# Altium footprint library Connector_PinHeader_2.54mm.PcbLib: 278 footprints (part 2 of 18)
Each footprint in its own frame and in the unit in brackets; x right, y up, seen from the top. Pads: shape width x height; smd on the part's side, far side on the other; paste and mask are expansions set on the pad; w line width, h text height; cw(c..) or ccw(c..) is an arc to the next point about the centre after c.
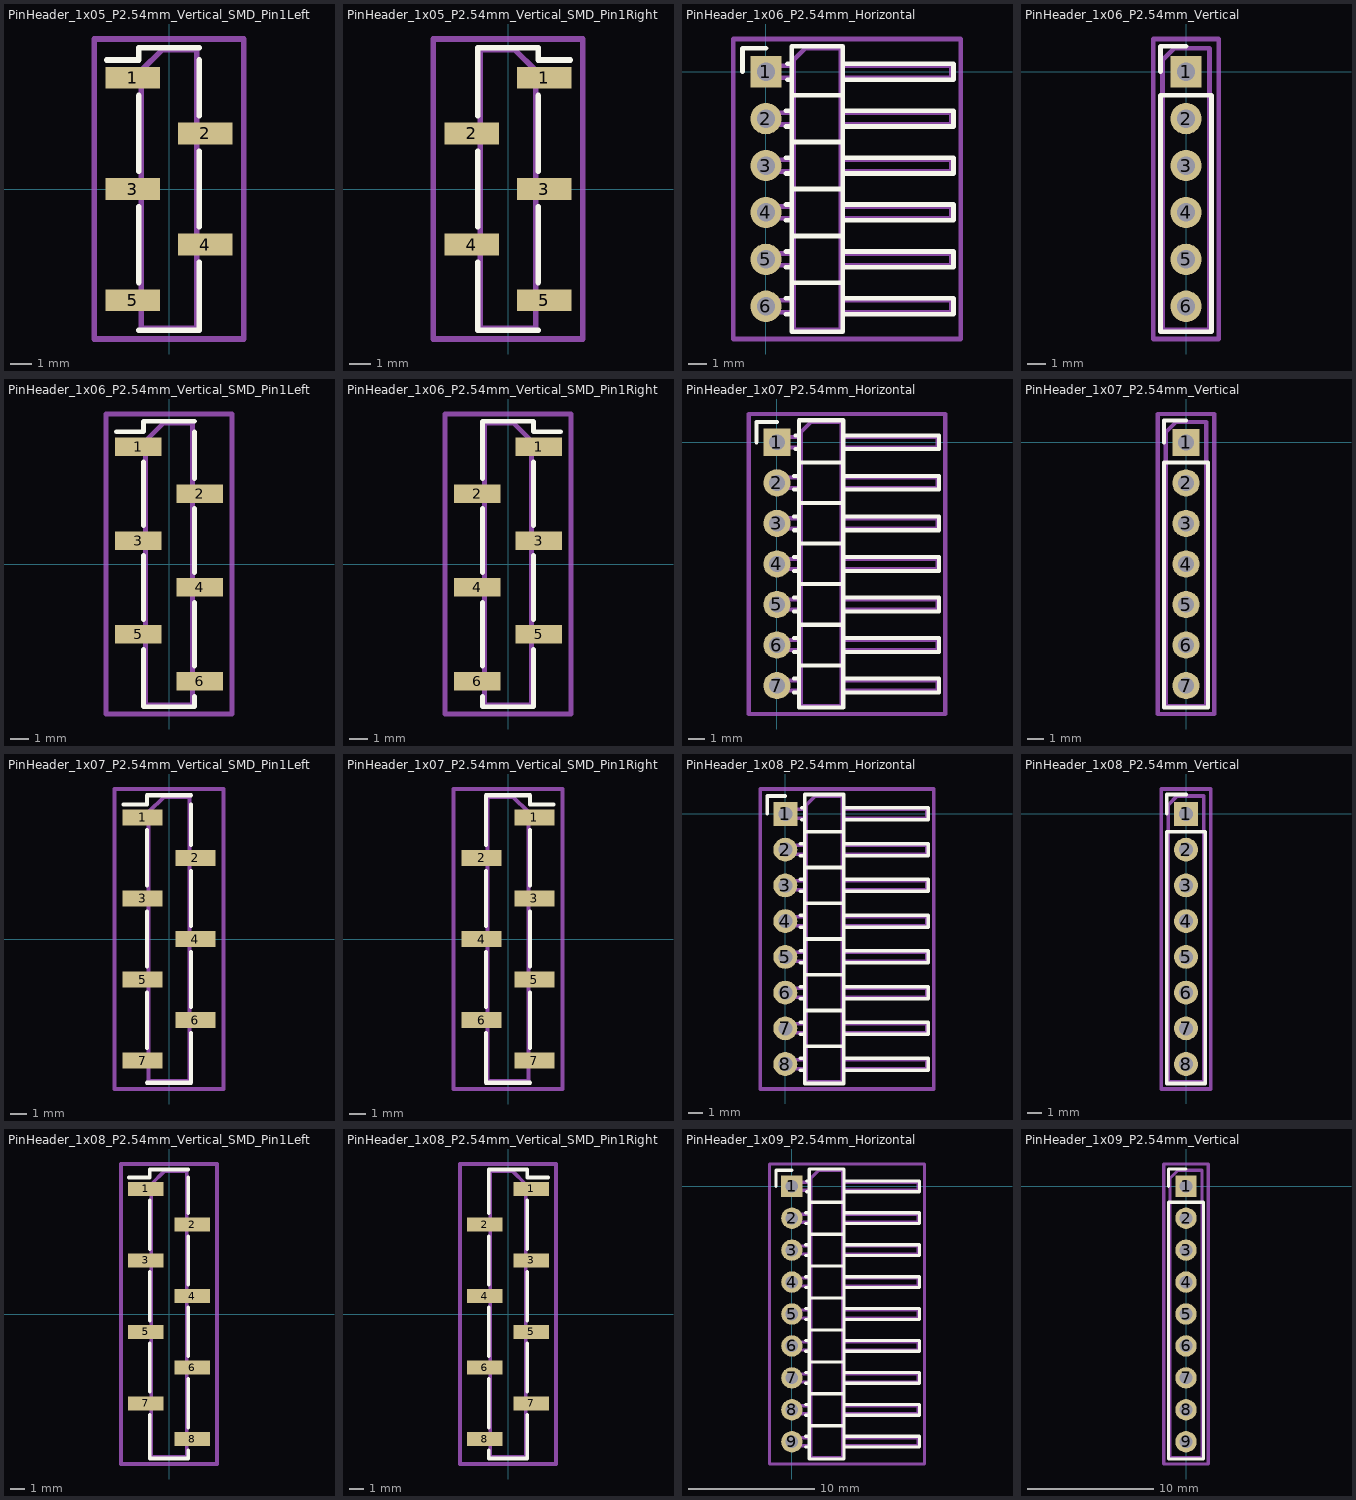
[diagram p1: the footprints below, top view; thin cyan lines are the x and y axes]

## PinHeader_1x05_P2.54mm_Vertical_SMD_Pin1Left [mm]
pads (5):
  rect 2.51x1 smd: 1(-1.655,5.08) 2(1.655,2.54) 3(-1.655,0) 4(1.655,-2.54) 5(-1.655,-5.08)
F.SilkS:
  lines w0.254: -2.85,5.89 -1.38,5.89 -1.38,6.46 1.38,6.46 ; -1.38,-6.46 1.38,-6.46 ; -1.38,-4.27 -1.38,-0.81 ; -1.38,0.81 -1.38,4.27 ; 1.38,-5.89 1.38,-6.46 ; 1.38,-3.35 1.38,-6.46 ; 1.38,-1.73 1.38,1.73 ; 1.38,3.35 1.38,5.89
Top Assembly:
  lines w0.254: -1.27,-5.4 -2.54,-5.4 -2.54,-4.76 -1.27,-4.76 ; -1.27,-0.32 -2.54,-0.32 -2.54,0.32 -1.27,0.32 ; -1.27,4.76 -2.54,4.76 -2.54,5.4 -1.27,5.4 ; 1.27,-2.86 2.54,-2.86 2.54,-2.22 1.27,-2.22 ; 1.27,2.22 2.54,2.22 2.54,2.86 1.27,2.86 ; -1.27,5.4 -1.27,-6.35 1.27,-6.35 1.27,6.35 -0.32,6.35 -1.27,5.4
  text "'.Designator'" at 0.84,-4.047 h1
Top Courtyard:
  lines w0.254: -3.41,-6.85 3.41,-6.85 3.41,6.85 -3.41,6.85 -3.41,-6.85
Top Designator:
  text ".Designator" at -7.618,-0.508 h1.52

## PinHeader_1x05_P2.54mm_Vertical_SMD_Pin1Right [mm]
pads (5):
  rect 2.51x1 smd: 1(1.655,5.08) 2(-1.655,2.54) 3(1.655,0) 4(-1.655,-2.54) 5(1.655,-5.08)
F.SilkS:
  lines w0.254: -1.38,-5.89 -1.38,-6.46 ; -1.38,-3.35 -1.38,-6.46 ; -1.38,-1.73 -1.38,1.73 ; -1.38,5.89 -1.38,3.35 -1.38,6.46 1.38,6.46 1.38,5.89 2.85,5.89 ; 1.38,-6.46 -1.38,-6.46 ; 1.38,-4.27 1.38,-0.81 ; 1.38,0.81 1.38,4.27
Top Assembly:
  lines w0.254: -1.27,-2.86 -2.54,-2.86 -2.54,-2.22 -1.27,-2.22 ; -1.27,2.22 -2.54,2.22 -2.54,2.86 -1.27,2.86 ; 1.27,-5.4 2.54,-5.4 2.54,-4.76 1.27,-4.76 ; 1.27,-0.32 2.54,-0.32 2.54,0.32 1.27,0.32 ; 1.27,4.76 2.54,4.76 2.54,5.4 1.27,5.4 ; 1.27,5.4 1.27,-6.35 -1.27,-6.35 -1.27,6.35 0.32,6.35 1.27,5.4
  text "'.Designator'" at 0.84,-4.047 h1
Top Courtyard:
  lines w0.254: -3.41,-6.85 3.41,-6.85 3.41,6.85 -3.41,6.85 -3.41,-6.85
Top Designator:
  text ".Designator" at -7.618,-0.508 h1.52

## PinHeader_1x06_P2.54mm_Horizontal [mm]
pads (6):
  rect 1.7x1.7 hole 1: 1(0,0)
  round 1.7 hole 1: 2(0,-2.54) 3(0,-5.08) 4(0,-7.62) 5(0,-10.16) 6(0,-12.7)
F.SilkS:
  lines w0.254: -1.27,0 -1.27,1.27 0,1.27 ; 1.077,-13.13 1.39,-13.13 ; 1.077,-12.27 1.39,-12.27 ; 1.077,-10.59 1.39,-10.59 ; 1.077,-9.73 1.39,-9.73 ; 1.077,-8.05 1.39,-8.05 ; 1.077,-7.19 1.39,-7.19 ; 1.077,-5.51 1.39,-5.51 ; 1.077,-4.65 1.39,-4.65 ; 1.077,-2.97 1.39,-2.97 ; 1.077,-2.11 1.39,-2.11 ; 1.16,-0.43 1.39,-0.43 ; 1.16,0.43 1.39,0.43 ; 1.39,-11.43 4.15,-11.43 ; 1.39,-8.89 4.15,-8.89 ; 1.39,-6.35 4.15,-6.35 ; 1.39,-3.81 4.15,-3.81 ; 1.39,-1.27 4.15,-1.27 ; 4.15,-13.13 10.15,-13.13 10.15,-12.27 4.15,-12.27 ; 4.15,-10.59 10.15,-10.59 10.15,-9.73 4.15,-9.73 ; 4.15,-8.05 10.15,-8.05 10.15,-7.19 4.15,-7.19 ; 4.15,-5.51 10.15,-5.51 10.15,-4.65 4.15,-4.65 ; 4.15,-2.97 10.15,-2.97 10.15,-2.11 4.15,-2.11 ; 1.39,-14.08 4.15,-14.08 4.15,1.38 1.39,1.38 1.39,-14.08 ; 4.15,-0.43 10.15,-0.43 10.15,0.43 4.15,0.43 4.15,-0.43
Top Assembly:
  lines w0.254: 1.5,-13.02 -0.32,-13.02 -0.32,-12.38 1.5,-12.38 ; 1.5,-10.48 -0.32,-10.48 -0.32,-9.84 1.5,-9.84 ; 1.5,-7.94 -0.32,-7.94 -0.32,-7.3 1.5,-7.3 ; 1.5,-5.4 -0.32,-5.4 -0.32,-4.76 1.5,-4.76 ; 1.5,-2.86 -0.32,-2.86 -0.32,-2.22 1.5,-2.22 ; 1.5,-0.32 -0.32,-0.32 -0.32,0.32 1.5,0.32 ; 4.04,-13.02 10.04,-13.02 10.04,-12.38 4.04,-12.38 ; 4.04,-10.48 10.04,-10.48 10.04,-9.84 4.04,-9.84 ; 4.04,-7.94 10.04,-7.94 10.04,-7.3 4.04,-7.3 ; 4.04,-5.4 10.04,-5.4 10.04,-4.76 4.04,-4.76 ; 4.04,-2.86 10.04,-2.86 10.04,-2.22 4.04,-2.22 ; 4.04,-0.32 10.04,-0.32 10.04,0.32 4.04,0.32 ; 1.5,-13.97 4.04,-13.97 4.04,1.27 2.135,1.27 1.5,0.635 1.5,-13.97
  text "'.Designator'" at 3.61,-10.397 h1
Top Courtyard:
  lines w0.254: -1.77,-14.47 10.54,-14.47 10.54,1.77 -1.77,1.77 -1.77,-14.47
Top Designator:
  text ".Designator" at -3.233,-6.858 h1.52

## PinHeader_1x06_P2.54mm_Vertical [mm]
pads (6):
  rect 1.7x1.7 hole 1: 1(0,0)
  round 1.7 hole 1: 2(0,-2.54) 3(0,-5.08) 4(0,-7.62) 5(0,-10.16) 6(0,-12.7)
F.SilkS:
  lines w0.254: -1.38,0 -1.38,1.38 0,1.38 ; -1.38,-14.08 1.38,-14.08 1.38,-1.27 -1.38,-1.27 -1.38,-14.08
Top Assembly:
  lines w0.254: -1.27,-13.97 1.27,-13.97 1.27,1.27 -0.635,1.27 -1.27,0.635 -1.27,-13.97
  text "'.Designator'" at 0.84,-10.397 h1
Top Courtyard:
  lines w0.254: -1.77,-14.47 1.77,-14.47 1.77,1.77 -1.77,1.77 -1.77,-14.47
Top Designator:
  text ".Designator" at -7.618,-6.858 h1.52

## PinHeader_1x06_P2.54mm_Vertical_SMD_Pin1Left [mm]
pads (6):
  rect 2.51x1 smd: 1(-1.655,6.35) 2(1.655,3.81) 3(-1.655,1.27) 4(1.655,-1.27) 5(-1.655,-3.81) 6(1.655,-6.35)
F.SilkS:
  lines w0.254: -2.85,7.16 -1.38,7.16 -1.38,7.73 1.38,7.73 ; -1.38,-4.62 -1.38,-7.73 1.38,-7.73 1.38,-7.16 ; -1.38,-3 -1.38,0.46 ; -1.38,2.08 -1.38,5.54 ; 1.38,-5.54 1.38,-2.08 ; 1.38,-0.46 1.38,3 ; 1.38,4.62 1.38,7.16
Top Assembly:
  lines w0.254: -1.27,-4.13 -2.54,-4.13 -2.54,-3.49 -1.27,-3.49 ; -1.27,0.95 -2.54,0.95 -2.54,1.59 -1.27,1.59 ; -1.27,6.03 -2.54,6.03 -2.54,6.67 -1.27,6.67 ; 1.27,-6.67 2.54,-6.67 2.54,-6.03 1.27,-6.03 ; 1.27,-1.59 2.54,-1.59 2.54,-0.95 1.27,-0.95 ; 1.27,3.49 2.54,3.49 2.54,4.13 1.27,4.13 ; -1.27,6.67 -1.27,-7.62 1.27,-7.62 1.27,7.62 -0.32,7.62 -1.27,6.67
  text "'.Designator'" at 0.84,-4.047 h1
Top Courtyard:
  lines w0.254: -3.41,-8.12 3.41,-8.12 3.41,8.12 -3.41,8.12 -3.41,-8.12
Top Designator:
  text ".Designator" at -7.618,-0.508 h1.52

## PinHeader_1x06_P2.54mm_Vertical_SMD_Pin1Right [mm]
pads (6):
  rect 2.51x1 smd: 1(1.655,6.35) 2(-1.655,3.81) 3(1.655,1.27) 4(-1.655,-1.27) 5(1.655,-3.81) 6(-1.655,-6.35)
F.SilkS:
  lines w0.254: -1.38,-7.16 -1.38,-7.73 1.38,-7.73 1.38,-4.62 ; -1.38,-5.54 -1.38,-2.08 ; -1.38,-0.46 -1.38,3 ; -1.38,7.16 -1.38,4.62 -1.38,7.73 1.38,7.73 1.38,7.16 2.85,7.16 ; 1.38,-3 1.38,0.46 ; 1.38,2.08 1.38,5.54
Top Assembly:
  lines w0.254: -1.27,-6.67 -2.54,-6.67 -2.54,-6.03 -1.27,-6.03 ; -1.27,-1.59 -2.54,-1.59 -2.54,-0.95 -1.27,-0.95 ; -1.27,3.49 -2.54,3.49 -2.54,4.13 -1.27,4.13 ; 1.27,-4.13 2.54,-4.13 2.54,-3.49 1.27,-3.49 ; 1.27,0.95 2.54,0.95 2.54,1.59 1.27,1.59 ; 1.27,6.03 2.54,6.03 2.54,6.67 1.27,6.67 ; 1.27,6.67 1.27,-7.62 -1.27,-7.62 -1.27,7.62 0.32,7.62 1.27,6.67
  text "'.Designator'" at 0.84,-4.047 h1
Top Courtyard:
  lines w0.254: -3.41,-8.12 3.41,-8.12 3.41,8.12 -3.41,8.12 -3.41,-8.12
Top Designator:
  text ".Designator" at -7.618,-0.508 h1.52

## PinHeader_1x07_P2.54mm_Horizontal [mm]
pads (7):
  rect 1.7x1.7 hole 1: 1(0,0)
  round 1.7 hole 1: 2(0,-2.54) 3(0,-5.08) 4(0,-7.62) 5(0,-10.16) 6(0,-12.7) 7(0,-15.24)
F.SilkS:
  lines w0.254: -1.27,0 -1.27,1.27 0,1.27 ; 1.077,-15.67 1.39,-15.67 ; 1.077,-14.81 1.39,-14.81 ; 1.077,-13.13 1.39,-13.13 ; 1.077,-12.27 1.39,-12.27 ; 1.077,-10.59 1.39,-10.59 ; 1.077,-9.73 1.39,-9.73 ; 1.077,-8.05 1.39,-8.05 ; 1.077,-7.19 1.39,-7.19 ; 1.077,-5.51 1.39,-5.51 ; 1.077,-4.65 1.39,-4.65 ; 1.077,-2.97 1.39,-2.97 ; 1.077,-2.11 1.39,-2.11 ; 1.16,-0.43 1.39,-0.43 ; 1.16,0.43 1.39,0.43 ; 1.39,-13.97 4.15,-13.97 ; 1.39,-11.43 4.15,-11.43 ; 1.39,-8.89 4.15,-8.89 ; 1.39,-6.35 4.15,-6.35 ; 1.39,-3.81 4.15,-3.81 ; 1.39,-1.27 4.15,-1.27 ; 4.15,-15.67 10.15,-15.67 10.15,-14.81 4.15,-14.81 ; 4.15,-13.13 10.15,-13.13 10.15,-12.27 4.15,-12.27 ; 4.15,-10.59 10.15,-10.59 10.15,-9.73 4.15,-9.73 ; 4.15,-8.05 10.15,-8.05 10.15,-7.19 4.15,-7.19 ; 4.15,-5.51 10.15,-5.51 10.15,-4.65 4.15,-4.65 ; 4.15,-2.97 10.15,-2.97 10.15,-2.11 4.15,-2.11 ; 1.39,-16.62 4.15,-16.62 4.15,1.38 1.39,1.38 1.39,-16.62 ; 4.15,-0.43 10.15,-0.43 10.15,0.43 4.15,0.43 4.15,-0.43
Top Assembly:
  lines w0.254: 1.5,-15.56 -0.32,-15.56 -0.32,-14.92 1.5,-14.92 ; 1.5,-13.02 -0.32,-13.02 -0.32,-12.38 1.5,-12.38 ; 1.5,-10.48 -0.32,-10.48 -0.32,-9.84 1.5,-9.84 ; 1.5,-7.94 -0.32,-7.94 -0.32,-7.3 1.5,-7.3 ; 1.5,-5.4 -0.32,-5.4 -0.32,-4.76 1.5,-4.76 ; 1.5,-2.86 -0.32,-2.86 -0.32,-2.22 1.5,-2.22 ; 1.5,-0.32 -0.32,-0.32 -0.32,0.32 1.5,0.32 ; 4.04,-15.56 10.04,-15.56 10.04,-14.92 4.04,-14.92 ; 4.04,-13.02 10.04,-13.02 10.04,-12.38 4.04,-12.38 ; 4.04,-10.48 10.04,-10.48 10.04,-9.84 4.04,-9.84 ; 4.04,-7.94 10.04,-7.94 10.04,-7.3 4.04,-7.3 ; 4.04,-5.4 10.04,-5.4 10.04,-4.76 4.04,-4.76 ; 4.04,-2.86 10.04,-2.86 10.04,-2.22 4.04,-2.22 ; 4.04,-0.32 10.04,-0.32 10.04,0.32 4.04,0.32 ; 1.5,-16.51 4.04,-16.51 4.04,1.27 2.135,1.27 1.5,0.635 1.5,-16.51
  text "'.Designator'" at 3.61,-11.667 h1
Top Courtyard:
  lines w0.254: -1.77,-17.02 10.54,-17.02 10.54,1.77 -1.77,1.77 -1.77,-17.02
Top Designator:
  text ".Designator" at -3.233,-8.133 h1.52

## PinHeader_1x07_P2.54mm_Vertical [mm]
pads (7):
  rect 1.7x1.7 hole 1: 1(0,0)
  round 1.7 hole 1: 2(0,-2.54) 3(0,-5.08) 4(0,-7.62) 5(0,-10.16) 6(0,-12.7) 7(0,-15.24)
F.SilkS:
  lines w0.254: -1.38,0 -1.38,1.38 0,1.38 ; -1.38,-16.62 1.38,-16.62 1.38,-1.27 -1.38,-1.27 -1.38,-16.62
Top Assembly:
  lines w0.254: -1.27,-16.51 1.27,-16.51 1.27,1.27 -0.635,1.27 -1.27,0.635 -1.27,-16.51
  text "'.Designator'" at 0.84,-11.667 h1
Top Courtyard:
  lines w0.254: -1.77,-17.02 1.77,-17.02 1.77,1.78 -1.77,1.78 -1.77,-17.02
Top Designator:
  text ".Designator" at -7.618,-8.128 h1.52

## PinHeader_1x07_P2.54mm_Vertical_SMD_Pin1Left [mm]
pads (7):
  rect 2.51x1 smd: 1(-1.655,7.62) 2(1.655,5.08) 3(-1.655,2.54) 4(1.655,0) 5(-1.655,-2.54) 6(1.655,-5.08) 7(-1.655,-7.62)
F.SilkS:
  lines w0.254: -2.85,8.43 -1.38,8.43 -1.38,9 1.38,9 ; -1.38,-9 1.38,-9 ; -1.38,-6.81 -1.38,-3.35 ; -1.38,-1.73 -1.38,1.73 ; -1.38,3.35 -1.38,6.81 ; 1.38,-8.43 1.38,-9 ; 1.38,-5.89 1.38,-9 ; 1.38,-4.27 1.38,-0.81 ; 1.38,0.81 1.38,4.27 ; 1.38,5.89 1.38,8.43
Top Assembly:
  lines w0.254: -1.27,-7.94 -2.54,-7.94 -2.54,-7.3 -1.27,-7.3 ; -1.27,-2.86 -2.54,-2.86 -2.54,-2.22 -1.27,-2.22 ; -1.27,2.22 -2.54,2.22 -2.54,2.86 -1.27,2.86 ; -1.27,7.3 -2.54,7.3 -2.54,7.94 -1.27,7.94 ; 1.27,-5.4 2.54,-5.4 2.54,-4.76 1.27,-4.76 ; 1.27,-0.32 2.54,-0.32 2.54,0.32 1.27,0.32 ; 1.27,4.76 2.54,4.76 2.54,5.4 1.27,5.4 ; -1.27,7.94 -1.27,-8.89 1.27,-8.89 1.27,8.89 -0.32,8.89 -1.27,7.94
  text "'.Designator'" at 0.84,-4.047 h1
Top Courtyard:
  lines w0.254: -3.41,-9.39 3.41,-9.39 3.41,9.39 -3.41,9.39 -3.41,-9.39
Top Designator:
  text ".Designator" at -7.618,-0.508 h1.52

## PinHeader_1x07_P2.54mm_Vertical_SMD_Pin1Right [mm]
pads (7):
  rect 2.51x1 smd: 1(1.655,7.62) 2(-1.655,5.08) 3(1.655,2.54) 4(-1.655,0) 5(1.655,-2.54) 6(-1.655,-5.08) 7(1.655,-7.62)
F.SilkS:
  lines w0.254: -1.38,-8.43 -1.38,-9 ; -1.38,-5.89 -1.38,-9 ; -1.38,-4.27 -1.38,-0.81 ; -1.38,0.81 -1.38,4.27 ; -1.38,8.43 -1.38,5.89 -1.38,9 1.38,9 1.38,8.43 2.85,8.43 ; 1.38,-9 -1.38,-9 ; 1.38,-6.81 1.38,-3.35 ; 1.38,-1.73 1.38,1.73 ; 1.38,3.35 1.38,6.81
Top Assembly:
  lines w0.254: -1.27,-5.4 -2.54,-5.4 -2.54,-4.76 -1.27,-4.76 ; -1.27,-0.32 -2.54,-0.32 -2.54,0.32 -1.27,0.32 ; -1.27,4.76 -2.54,4.76 -2.54,5.4 -1.27,5.4 ; 1.27,-7.94 2.54,-7.94 2.54,-7.3 1.27,-7.3 ; 1.27,-2.86 2.54,-2.86 2.54,-2.22 1.27,-2.22 ; 1.27,2.22 2.54,2.22 2.54,2.86 1.27,2.86 ; 1.27,7.3 2.54,7.3 2.54,7.94 1.27,7.94 ; 1.27,7.94 1.27,-8.89 -1.27,-8.89 -1.27,8.89 0.32,8.89 1.27,7.94
  text "'.Designator'" at 0.84,-4.047 h1
Top Courtyard:
  lines w0.254: -3.41,-9.39 3.41,-9.39 3.41,9.39 -3.41,9.39 -3.41,-9.39
Top Designator:
  text ".Designator" at -7.618,-0.508 h1.52

## PinHeader_1x08_P2.54mm_Horizontal [mm]
pads (8):
  rect 1.7x1.7 hole 1: 1(0,0)
  round 1.7 hole 1: 2(0,-2.54) 3(0,-5.08) 4(0,-7.62) 5(0,-10.16) 6(0,-12.7) 7(0,-15.24) 8(0,-17.78)
F.SilkS:
  lines w0.254: -1.27,0 -1.27,1.27 0,1.27 ; 1.077,-18.21 1.39,-18.21 ; 1.077,-17.35 1.39,-17.35 ; 1.077,-15.67 1.39,-15.67 ; 1.077,-14.81 1.39,-14.81 ; 1.077,-13.13 1.39,-13.13 ; 1.077,-12.27 1.39,-12.27 ; 1.077,-10.59 1.39,-10.59 ; 1.077,-9.73 1.39,-9.73 ; 1.077,-8.05 1.39,-8.05 ; 1.077,-7.19 1.39,-7.19 ; 1.077,-5.51 1.39,-5.51 ; 1.077,-4.65 1.39,-4.65 ; 1.077,-2.97 1.39,-2.97 ; 1.077,-2.11 1.39,-2.11 ; 1.16,-0.43 1.39,-0.43 ; 1.16,0.43 1.39,0.43 ; 1.39,-16.51 4.15,-16.51 ; 1.39,-13.97 4.15,-13.97 ; 1.39,-11.43 4.15,-11.43 ; 1.39,-8.89 4.15,-8.89 ; 1.39,-6.35 4.15,-6.35 ; 1.39,-3.81 4.15,-3.81 ; 1.39,-1.27 4.15,-1.27 ; 4.15,-18.21 10.15,-18.21 10.15,-17.35 4.15,-17.35 ; 4.15,-15.67 10.15,-15.67 10.15,-14.81 4.15,-14.81 ; 4.15,-13.13 10.15,-13.13 10.15,-12.27 4.15,-12.27 ; 4.15,-10.59 10.15,-10.59 10.15,-9.73 4.15,-9.73 ; 4.15,-8.05 10.15,-8.05 10.15,-7.19 4.15,-7.19 ; 4.15,-5.51 10.15,-5.51 10.15,-4.65 4.15,-4.65 ; 4.15,-2.97 10.15,-2.97 10.15,-2.11 4.15,-2.11 ; 1.39,-19.16 4.15,-19.16 4.15,1.38 1.39,1.38 1.39,-19.16 ; 4.15,-0.43 10.15,-0.43 10.15,0.43 4.15,0.43 4.15,-0.43
Top Assembly:
  lines w0.254: 1.5,-18.1 -0.32,-18.1 -0.32,-17.46 1.5,-17.46 ; 1.5,-15.56 -0.32,-15.56 -0.32,-14.92 1.5,-14.92 ; 1.5,-13.02 -0.32,-13.02 -0.32,-12.38 1.5,-12.38 ; 1.5,-10.48 -0.32,-10.48 -0.32,-9.84 1.5,-9.84 ; 1.5,-7.94 -0.32,-7.94 -0.32,-7.3 1.5,-7.3 ; 1.5,-5.4 -0.32,-5.4 -0.32,-4.76 1.5,-4.76 ; 1.5,-2.86 -0.32,-2.86 -0.32,-2.22 1.5,-2.22 ; 1.5,-0.32 -0.32,-0.32 -0.32,0.32 1.5,0.32 ; 4.04,-18.1 10.04,-18.1 10.04,-17.46 4.04,-17.46 ; 4.04,-15.56 10.04,-15.56 10.04,-14.92 4.04,-14.92 ; 4.04,-13.02 10.04,-13.02 10.04,-12.38 4.04,-12.38 ; 4.04,-10.48 10.04,-10.48 10.04,-9.84 4.04,-9.84 ; 4.04,-7.94 10.04,-7.94 10.04,-7.3 4.04,-7.3 ; 4.04,-5.4 10.04,-5.4 10.04,-4.76 4.04,-4.76 ; 4.04,-2.86 10.04,-2.86 10.04,-2.22 4.04,-2.22 ; 4.04,-0.32 10.04,-0.32 10.04,0.32 4.04,0.32 ; 1.5,-19.05 4.04,-19.05 4.04,1.27 2.135,1.27 1.5,0.635 1.5,-19.05
  text "'.Designator'" at 3.61,-12.937 h1
Top Courtyard:
  lines w0.254: -1.77,-19.55 10.54,-19.55 10.54,1.77 -1.77,1.77 -1.77,-19.55
Top Designator:
  text ".Designator" at -3.233,-9.398 h1.52

## PinHeader_1x08_P2.54mm_Vertical [mm]
pads (8):
  rect 1.7x1.7 hole 1: 1(0,0)
  round 1.7 hole 1: 2(0,-2.54) 3(0,-5.08) 4(0,-7.62) 5(0,-10.16) 6(0,-12.7) 7(0,-15.24) 8(0,-17.78)
F.SilkS:
  lines w0.254: -1.38,0 -1.38,1.38 0,1.38 ; -1.38,-19.16 1.38,-19.16 1.38,-1.27 -1.38,-1.27 -1.38,-19.16
Top Assembly:
  lines w0.254: -1.27,-19.05 1.27,-19.05 1.27,1.27 -0.635,1.27 -1.27,0.635 -1.27,-19.05
  text "'.Designator'" at 0.84,-12.937 h1
Top Courtyard:
  lines w0.254: -1.77,-19.55 1.77,-19.55 1.77,1.77 -1.77,1.77 -1.77,-19.55
Top Designator:
  text ".Designator" at -7.618,-9.398 h1.52

## PinHeader_1x08_P2.54mm_Vertical_SMD_Pin1Left [mm]
pads (8):
  rect 2.51x1 smd: 1(-1.655,8.89) 2(1.655,6.35) 3(-1.655,3.81) 4(1.655,1.27) 5(-1.655,-1.27) 6(1.655,-3.81) 7(-1.655,-6.35) 8(1.655,-8.89)
F.SilkS:
  lines w0.254: -2.85,9.7 -1.38,9.7 -1.38,10.27 1.38,10.27 ; -1.38,-7.16 -1.38,-10.27 1.38,-10.27 1.38,-9.7 ; -1.38,-5.54 -1.38,-2.08 ; -1.38,-0.46 -1.38,3 ; -1.38,4.62 -1.38,8.08 ; 1.38,-8.08 1.38,-4.62 ; 1.38,-3 1.38,0.46 ; 1.38,2.08 1.38,5.54 ; 1.38,7.16 1.38,9.7
Top Assembly:
  lines w0.254: -1.27,-6.67 -2.54,-6.67 -2.54,-6.03 -1.27,-6.03 ; -1.27,-1.59 -2.54,-1.59 -2.54,-0.95 -1.27,-0.95 ; -1.27,3.49 -2.54,3.49 -2.54,4.13 -1.27,4.13 ; -1.27,8.57 -2.54,8.57 -2.54,9.21 -1.27,9.21 ; 1.27,-9.21 2.54,-9.21 2.54,-8.57 1.27,-8.57 ; 1.27,-4.13 2.54,-4.13 2.54,-3.49 1.27,-3.49 ; 1.27,0.95 2.54,0.95 2.54,1.59 1.27,1.59 ; 1.27,6.03 2.54,6.03 2.54,6.67 1.27,6.67 ; -1.27,9.21 -1.27,-10.16 1.27,-10.16 1.27,10.16 -0.32,10.16 -1.27,9.21
  text "'.Designator'" at 0.84,-4.047 h1
Top Courtyard:
  lines w0.254: -3.41,-10.66 3.41,-10.66 3.41,10.66 -3.41,10.66 -3.41,-10.66
Top Designator:
  text ".Designator" at -7.618,-0.508 h1.52

## PinHeader_1x08_P2.54mm_Vertical_SMD_Pin1Right [mm]
pads (8):
  rect 2.51x1 smd: 1(1.655,8.89) 2(-1.655,6.35) 3(1.655,3.81) 4(-1.655,1.27) 5(1.655,-1.27) 6(-1.655,-3.81) 7(1.655,-6.35) 8(-1.655,-8.89)
F.SilkS:
  lines w0.254: -1.38,-9.7 -1.38,-10.27 1.38,-10.27 1.38,-7.16 ; -1.38,-8.08 -1.38,-4.62 ; -1.38,-3 -1.38,0.46 ; -1.38,2.08 -1.38,5.54 ; -1.38,9.7 -1.38,7.16 -1.38,10.27 1.38,10.27 1.38,9.7 2.85,9.7 ; 1.38,-5.54 1.38,-2.08 ; 1.38,-0.46 1.38,3 ; 1.38,4.62 1.38,8.08
Top Assembly:
  lines w0.254: -1.27,-9.21 -2.54,-9.21 -2.54,-8.57 -1.27,-8.57 ; -1.27,-4.13 -2.54,-4.13 -2.54,-3.49 -1.27,-3.49 ; -1.27,0.95 -2.54,0.95 -2.54,1.59 -1.27,1.59 ; -1.27,6.03 -2.54,6.03 -2.54,6.67 -1.27,6.67 ; 1.27,-6.67 2.54,-6.67 2.54,-6.03 1.27,-6.03 ; 1.27,-1.59 2.54,-1.59 2.54,-0.95 1.27,-0.95 ; 1.27,3.49 2.54,3.49 2.54,4.13 1.27,4.13 ; 1.27,8.57 2.54,8.57 2.54,9.21 1.27,9.21 ; 1.27,9.21 1.27,-10.16 -1.27,-10.16 -1.27,10.16 0.32,10.16 1.27,9.21
  text "'.Designator'" at 0.84,-4.047 h1
Top Courtyard:
  lines w0.254: -3.41,-10.66 3.41,-10.66 3.41,10.66 -3.41,10.66 -3.41,-10.66
Top Designator:
  text ".Designator" at -7.618,-0.508 h1.52

## PinHeader_1x09_P2.54mm_Horizontal [mm]
pads (9):
  rect 1.7x1.7 hole 1: 1(0,0)
  round 1.7 hole 1: 2(0,-2.54) 3(0,-5.08) 4(0,-7.62) 5(0,-10.16) 6(0,-12.7) 7(0,-15.24) 8(0,-17.78) 9(0,-20.32)
F.SilkS:
  lines w0.254: -1.27,0 -1.27,1.27 0,1.27 ; 1.077,-20.75 1.39,-20.75 ; 1.077,-19.89 1.39,-19.89 ; 1.077,-18.21 1.39,-18.21 ; 1.077,-17.35 1.39,-17.35 ; 1.077,-15.67 1.39,-15.67 ; 1.077,-14.81 1.39,-14.81 ; 1.077,-13.13 1.39,-13.13 ; 1.077,-12.27 1.39,-12.27 ; 1.077,-10.59 1.39,-10.59 ; 1.077,-9.73 1.39,-9.73 ; 1.077,-8.05 1.39,-8.05 ; 1.077,-7.19 1.39,-7.19 ; 1.077,-5.51 1.39,-5.51 ; 1.077,-4.65 1.39,-4.65 ; 1.077,-2.97 1.39,-2.97 ; 1.077,-2.11 1.39,-2.11 ; 1.16,-0.43 1.39,-0.43 ; 1.16,0.43 1.39,0.43 ; 1.39,-19.05 4.15,-19.05 ; 1.39,-16.51 4.15,-16.51 ; 1.39,-13.97 4.15,-13.97 ; 1.39,-11.43 4.15,-11.43 ; 1.39,-8.89 4.15,-8.89 ; 1.39,-6.35 4.15,-6.35 ; 1.39,-3.81 4.15,-3.81 ; 1.39,-1.27 4.15,-1.27 ; 4.15,-20.75 10.15,-20.75 10.15,-19.89 4.15,-19.89 ; 4.15,-18.21 10.15,-18.21 10.15,-17.35 4.15,-17.35 ; 4.15,-15.67 10.15,-15.67 10.15,-14.81 4.15,-14.81 ; 4.15,-13.13 10.15,-13.13 10.15,-12.27 4.15,-12.27 ; 4.15,-10.59 10.15,-10.59 10.15,-9.73 4.15,-9.73 ; 4.15,-8.05 10.15,-8.05 10.15,-7.19 4.15,-7.19 ; 4.15,-5.51 10.15,-5.51 10.15,-4.65 4.15,-4.65 ; 4.15,-2.97 10.15,-2.97 10.15,-2.11 4.15,-2.11 ; 1.39,-21.7 4.15,-21.7 4.15,1.38 1.39,1.38 1.39,-21.7 ; 4.15,-0.43 10.15,-0.43 10.15,0.43 4.15,0.43 4.15,-0.43
Top Assembly:
  lines w0.254: 1.5,-20.64 -0.32,-20.64 -0.32,-20 1.5,-20 ; 1.5,-18.1 -0.32,-18.1 -0.32,-17.46 1.5,-17.46 ; 1.5,-15.56 -0.32,-15.56 -0.32,-14.92 1.5,-14.92 ; 1.5,-13.02 -0.32,-13.02 -0.32,-12.38 1.5,-12.38 ; 1.5,-10.48 -0.32,-10.48 -0.32,-9.84 1.5,-9.84 ; 1.5,-7.94 -0.32,-7.94 -0.32,-7.3 1.5,-7.3 ; 1.5,-5.4 -0.32,-5.4 -0.32,-4.76 1.5,-4.76 ; 1.5,-2.86 -0.32,-2.86 -0.32,-2.22 1.5,-2.22 ; 1.5,-0.32 -0.32,-0.32 -0.32,0.32 1.5,0.32 ; 4.04,-20.64 10.04,-20.64 10.04,-20 4.04,-20 ; 4.04,-18.1 10.04,-18.1 10.04,-17.46 4.04,-17.46 ; 4.04,-15.56 10.04,-15.56 10.04,-14.92 4.04,-14.92 ; 4.04,-13.02 10.04,-13.02 10.04,-12.38 4.04,-12.38 ; 4.04,-10.48 10.04,-10.48 10.04,-9.84 4.04,-9.84 ; 4.04,-7.94 10.04,-7.94 10.04,-7.3 4.04,-7.3 ; 4.04,-5.4 10.04,-5.4 10.04,-4.76 4.04,-4.76 ; 4.04,-2.86 10.04,-2.86 10.04,-2.22 4.04,-2.22 ; 4.04,-0.32 10.04,-0.32 10.04,0.32 4.04,0.32 ; 1.5,-21.59 4.04,-21.59 4.04,1.27 2.135,1.27 1.5,0.635 1.5,-21.59
  text "'.Designator'" at 3.61,-14.207 h1
Top Courtyard:
  lines w0.254: -1.77,-22.09 10.54,-22.09 10.54,1.77 -1.77,1.77 -1.77,-22.09
Top Designator:
  text ".Designator" at -3.233,-10.668 h1.52

## PinHeader_1x09_P2.54mm_Vertical [mm]
pads (9):
  rect 1.7x1.7 hole 1: 1(0,0)
  round 1.7 hole 1: 2(0,-2.54) 3(0,-5.08) 4(0,-7.62) 5(0,-10.16) 6(0,-12.7) 7(0,-15.24) 8(0,-17.78) 9(0,-20.32)
F.SilkS:
  lines w0.254: -1.38,0 -1.38,1.38 0,1.38 ; -1.38,-21.7 1.38,-21.7 1.38,-1.27 -1.38,-1.27 -1.38,-21.7
Top Assembly:
  lines w0.254: -1.27,-21.59 1.27,-21.59 1.27,1.27 -0.635,1.27 -1.27,0.635 -1.27,-21.59
  text "'.Designator'" at 0.84,-14.207 h1
Top Courtyard:
  lines w0.254: -1.77,-22.09 1.77,-22.09 1.77,1.77 -1.77,1.77 -1.77,-22.09
Top Designator:
  text ".Designator" at -7.618,-10.668 h1.52